# Altium schematic symbol library TMP100NA3K.SchLib: 1 symbol
Pins are listed as number, name and electrical type; pins without a type are passive.

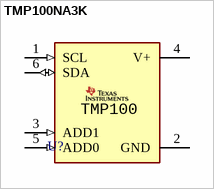
[diagram p0: symbol TMP100NA3K]

## TMP100NA3K
designator U?
=Description
footprint SOT-6
pins: 1 SCL (in), 2 GND (power), 3 ADD1 (in), 4 V+ (power), 5 ADD0 (in), 6 SDA (io)
text: TMP100